# Altium schematic symbol library AnalogDevices.SchLib: 17 symbols
Pins are listed as number, name and electrical type; pins without a type are passive.

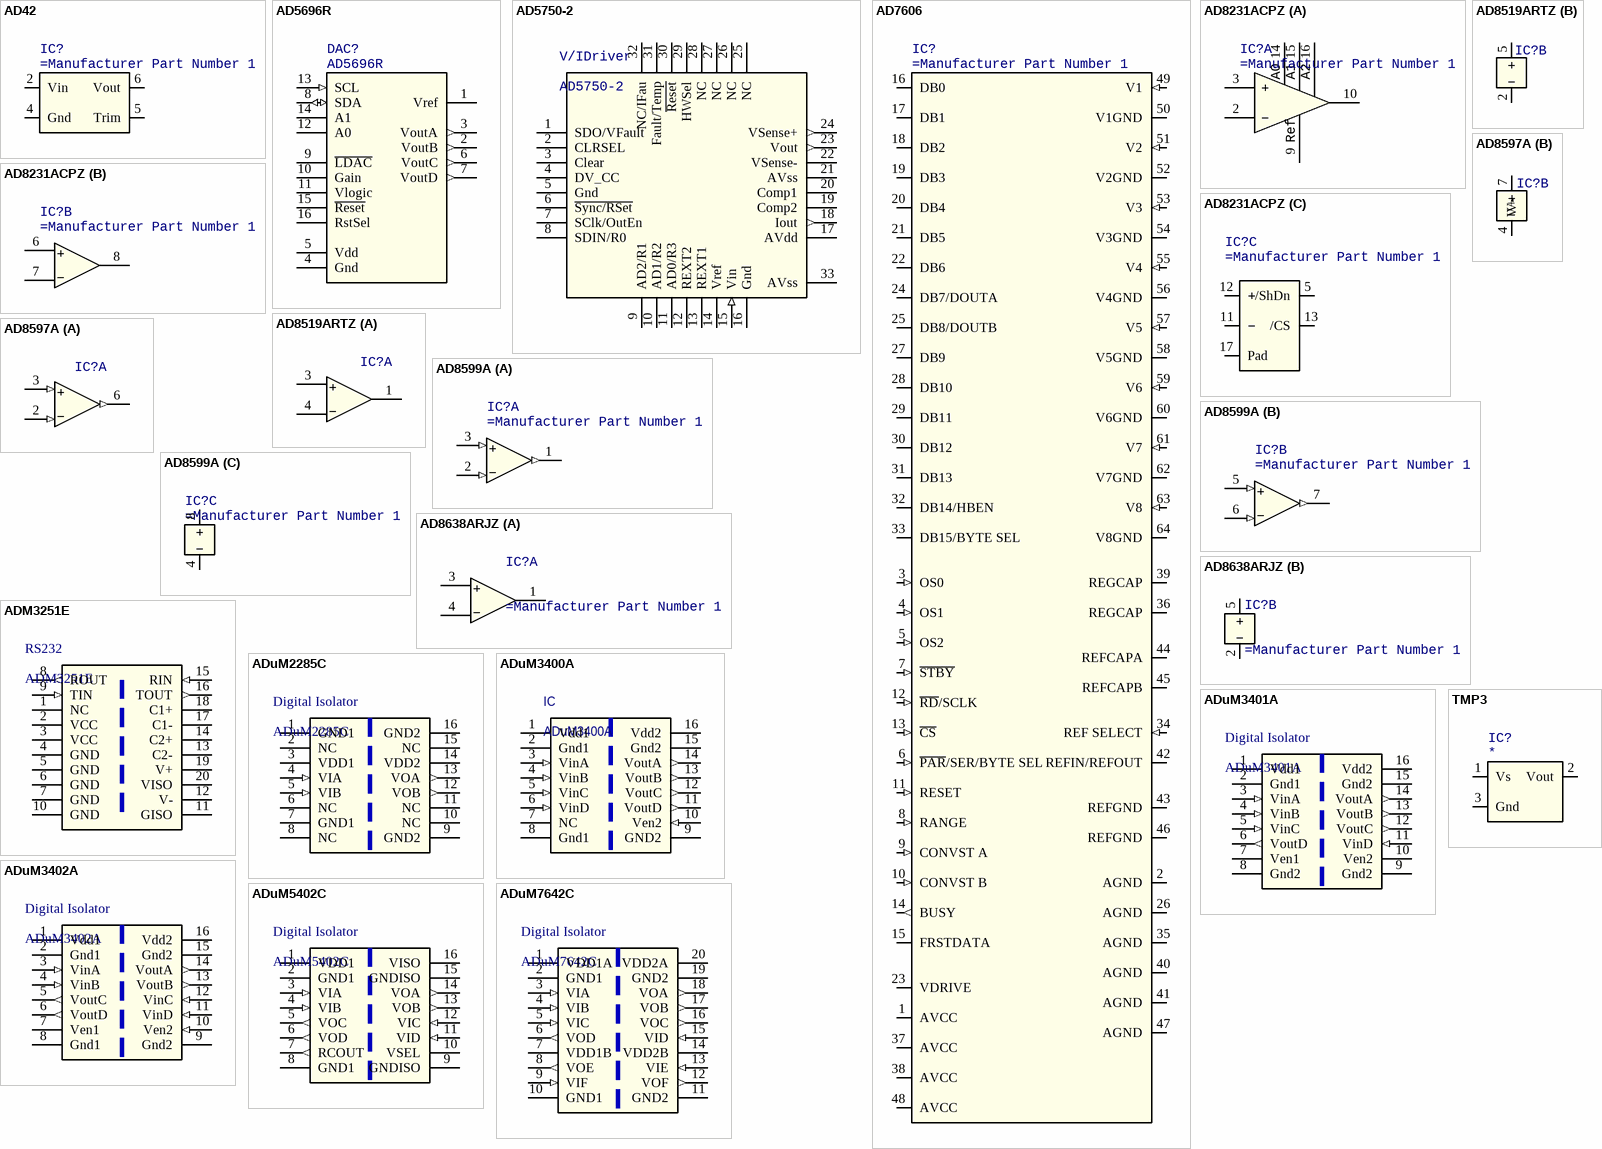
[diagram p0: symbols AD42 to TMP3]

## AD42
designator IC?
Low Noise Voltage Reference
footprint MSOP65P490X86-8N (TSOP, 8-Leads, Body 3.00x3.00mm, Pitch 0.65mm, IPC Medium Density)
footprint SOIC127P590X175-8N (SOIC, 8-Leads, Body 4.90x3.90mm, Pitch 1.27mm, IPC Medium Density)
pins: 1 NC hidden, 2 Vin (power), 3 NC hidden, 4 Gnd (power), 5 Trim, 6 Vout (power), 7 NC hidden, 8 NC hidden

## AD5696R
designator DAC?
DAC 4Ch with integrated Voltage Reference; Manufacturer 1: AnalogDevices; I2C Base Address: 00011; Manufacturer Part Number 1: AD5696R; Value: *
footprint TSOP65P500X640X120-16N (TSOP, 16-Leads, Body 5,00x4,40mm, Pitch 0,65mm, IPC Medium Density)
pins: 1 Vref (power), 2 VoutB (out), 3 VoutA (out), 4 Gnd (power), 5 Vdd (power), 6 VoutC (out), 7 VoutD (out), 8 SDA (io), 9 ~{LDAC}, 10 Gain, 11 Vlogic, 12 A0, 13 SCL (in), 14 A1, 15 ~{Reset}, 16 RstSel

## AD5750-2
designator V/IDriver
Voltage / Current Driver; Manufacturer 1: Analog Devices; Manufacturer Part Number 1: AD5750-2BCPZ; Supplier 1: Farnell; Supplier Part Number 1: 2112671; Value: AD5750-2
footprint QFN50P500X500X080-64N (FN, 32-Leads, Body 5,00x5,00mm, Pitch 0,50mm, Thermal Pad 3,10x3,10mm, IPC Medium Density)
pins: 1 SDO/VFault, 2 CLRSEL, 3 Clear, 4 DV_CC (power), 5 Gnd (power), 6 ~{Sync/RSet}, 7 SClk/OutEn, 8 SDIN/R0, 9 AD2/R1, 10 AD1/R2, 11 AD0/R3, 12 REXT2, 13 REXT1, 14 Vref (power), 15 Vin (in), 16 Gnd (power), 17 AVdd (power), 18 Iout (out), 19 Comp2, 20 Comp1, 21 AVss (power), 22 VSense-, 23 Vout (out), 24 VSense+ (out), 25 NC, 26 NC, 27 NC, 28 NC, 29 HWSel, 30 ~{Reset}, 31 Fault/Temp, 32 NC/IFau, 33 AVss

## AD7606
designator IC?
ADC /16bit / 8Ch
pins: 1 AVCC (power) "Analog Supply Voltage, 4.75 V to 5.25 V. This supply voltage is applied to the internal front-end amplifiers and to the ADC core. These supply pins should be decoupled to AGND.", 2 AGND (power) "Analog Ground. These pins are the ground reference points for all analog circuitry on the AD7606. All analog input signals and external reference signals should be referred to these pins. All six of these AGND pins should (See Datasheet)", 3 OS0 (in) "Oversampling Mode Pins. Logic inputs. These inputs are used to select the oversampling ratio. OS 2 is the MSB control bit, and OS 0 is the LSB control bit. See the Digital Filter section for more details about the (See Datasheet)", 4 OS1 (in) "Oversampling Mode Pins. Logic inputs. These inputs are used to select the oversampling ratio. OS 2 is the MSB control bit, and OS 0 is the LSB control bit. See the Digital Filter section for more details about the (See Datasheet)", 5 OS2 (in) "Oversampling Mode Pins. Logic inputs. These inputs are used to select the oversampling ratio. OS 2 is the MSB control bit, and OS 0 is the LSB control bit. See the Digital Filter section for more details about the (See Datasheet)", 6 ~{PAR}/SER/BYTE SEL (in) "Parallel/Serial/Byte Interface Selection Input. Logic input. If this pin is tied to a logic low, the parallel interface is selected. If this pin is tied to a logic high,the serial interface is selected. Parallel byte (See Datasheet)", 7 ~{STBY} (in) "Standby Mode Input. This pin is used to place the AD7606/AD7606-6/AD7606-4 into one of two power-down modes: standby mode or shutdown mode. The power-down mode entered depends on the state of the RANGE pin, as shown in Table (See Datasheet)", 8 RANGE (in) "Analog Input Range Selection. Logic input. The polarity on this pin deter-mines the input range of the analog input channels. If this pin is tied to a logic high, the analog input range is +/-10 V for all channels. If this (See Datasheet)", 9 CONVST A (in) "Conversion Start Input A. Logic inputs. These logic inputs are used to initiate conversions on the analog input channels. For simultaneous sampling of all input channels, CONVST A and CONVST B can be shorted together, and a (See Datasheet)", 10 CONVST B (in) "Conversion Start Input B. Logic inputs. These logic inputs are used to initiate conversions on the analog input channels. For simultaneous sampling of all input channels, CONVST A and CONVST B can be shorted together, and a (See Datasheet)", 11 RESET (in) "Reset Input. When set to logic high, the rising edge of RESET resets the AD7606/AD7606-6/AD7606-4. The part should receive a RESET pulse after power-up. The RESET high pulse should typically be 50 ns wide. If a RESET pulse (See Datasheet)", 12 ~{RD}/SCLK (in) "Parallel Data Read Control Input When the Parallel Interface Is Selected (R\D\)/ Serial Clock Input When the Serial Interface Is Selected (SCLK). When both C\S\ and R\D\ are logic low in parallel mode, the output bus is (See Datasheet)", 13 ~{CS} (in) "Chip Select. This active low logic input frames the data transfer. When both C\S\ and R\D\ are logic low in parallel mode, the DB[15:0] output bus is enabled and the conversion result is output on the parallel data bus lines.(See Datasheet)", 14 BUSY (out) "Busy Output. This pin transitions to a logic high after both CONVST A and CONVST B rising edges and indicates that the conversion process has started. The BUSY output remains high until the conversion process for all (See Datasheet)", 15 FRSTDATA (hiz) "Digital Output. The FRSTDATA output signal indicates when the first channel, V1, is being read back on the parallel, byte, or serial interface. When the C\S\ input is high, the FRSTDATA output pin is in three-state. The (See Datasheet)", 16 DB0 (io) "Parallel Output Data Bit, DB6 to DB0. When P\A\R\/SER/BYTE SEL = 0, this pin acts as three-state parallel digital input/output pin. When C\S\ and R\D\ are low, these pins are used to output DB6 to DB0 of the conversion (See Datasheet)", 17 DB1 (io) "Parallel Output Data Bit, DB6 to DB0. When P\A\R\/SER/BYTE SEL = 0, this pin acts as three-state parallel digital input/output pin. When C\S\ and R\D\ are low, these pins are used to output DB6 to DB0 of the conversion (See Datasheet)", 18 DB2 (io) "Parallel Output Data Bit, DB6 to DB0. When P\A\R\/SER/BYTE SEL = 0, this pin acts as three-state parallel digital input/output pin. When C\S\ and R\D\ are low, these pins are used to output DB6 to DB0 of the conversion (See Datasheet)", 19 DB3 (io) "Parallel Output Data Bit, DB6 to DB0. When P\A\R\/SER/BYTE SEL = 0, this pin acts as three-state parallel digital input/output pin. When C\S\ and R\D\ are low, these pins are used to output DB6 to DB0 of the conversion (See Datasheet)", 20 DB4 (io) "Parallel Output Data Bit, DB6 to DB0. When P\A\R\/SER/BYTE SEL = 0, this pin acts as three-state parallel digital input/output pin. When C\S\ and R\D\ are low, these pins are used to output DB6 to DB0 of the conversion (See Datasheet)", 21 DB5 (io) "Parallel Output Data Bit, DB6 to DB0. When P\A\R\/SER/BYTE SEL = 0, this pin acts as three-state parallel digital input/output pin. When C\S\ and R\D\ are low, these pins are used to output DB6 to DB0 of the conversion (See Datasheet)", 22 DB6 (io) "Parallel Output Data Bit, DB6 to DB0. When P\A\R\/SER/BYTE SEL = 0, this pin acts as three-state parallel digital input/output pin. When C\S\ and R\D\ are low, these pins are used to output DB6 to DB0 of the conversion (See Datasheet)", 23 VDRIVE (power) "Logic Power Supply Input. The voltage (2.3 V to 5.25 V) supplied at this pin determines the operating voltage of the interface. This pin is nominally at the same supply as the supply of the host interface (that is, DSP and (See Datasheet)", 24 DB7/DOUTA (io) "Parallel Output Data Bit 7 (DB7)/Serial Interface Data Output Pin (DoutA). When P\A\R\/SER/BYTE SEL = 0, this pin acts as a three-state parallel digital input/output pin. When C\S\ and R\D\ are low, this pin is used to (See Datasheet)", 25 DB8/DOUTB (io) "Parallel Output Data Bit 8 (DB8)/Serial Interface Data Output Pin (DoutB).  When P\A\R\/SER/BYTE SEL = 0, this pin acts as a three-state parallel digital input/output pin. When C\S\ and R\D\ are low, this pin is used to (See Datasheet)", 26 AGND (power) "Analog Ground. These pins are the ground reference points for all analog circuitry on the AD7606. All analog input signals and external reference signals should be referred to these pins. All six of these AGND pins should (See Datasheet)", 27 DB9 (io) "Parallel Output Data Bit, DB13 to DB9. When P\A\R\/SER/BYTE SEL = 0, this pin acts as three-state parallel digital input/output pin. When C\S\ and R\D\ are low, these pins are used to output DB13 to DB9 of the conversion (See Datasheet)", 28 DB10 (io) "Parallel Output Data Bit, DB13 to DB9. When P\A\R\/SER/BYTE SEL = 0, this pin acts as three-state parallel digital input/output pin. When C\S\ and R\D\ are low, these pins are used to output DB13 to DB9 of the conversion (See Datasheet)", 29 DB11 (io) "Parallel Output Data Bit, DB13 to DB9. When P\A\R\/SER/BYTE SEL = 0, this pin acts as three-state parallel digital input/output pin. When C\S\ and R\D\ are low, these pins are used to output DB13 to DB9 of the conversion (See Datasheet)", 30 DB12 (io) "Parallel Output Data Bit, DB13 to DB9. When P\A\R\/SER/BYTE SEL = 0, this pin acts as three-state parallel digital input/output pin. When C\S\ and R\D\ are low, these pins are used to output DB13 to DB9 of the conversion (See Datasheet)", 31 DB13 (io) "Parallel Output Data Bit, DB13 to DB9. When P\A\R\/SER/BYTE SEL = 0, this pin acts as three-state parallel digital input/output pin. When C\S\ and R\D\ are low, these pins are used to output DB13 to DB9 of the conversion (See Datasheet)", 32 DB14/HBEN (io) "Parallel Output Data Bit 14 (DB14)/High Byte Enable (HBEN). When P\A\R\/ SER/BYTE SEL = 0, this pin acts as a three-state parallel digital output pin. When C\S\ and R\D\ are low, this pin is used to output DB14 of the (See Datasheet)", 33 DB15/BYTE SEL (io) "Parallel Output Data Bit 15 (DB15)/Parallel Byte Mode Select (BYTE SEL).  When P\A\R\/SER/BYTE SEL = 0, this pin acts as a three-state parallel digital output pin. When C\S\ and R\D\ are low, this pin is used to output DB15 (See Datasheet)", 34 REF SELECT (in) "Internal/External Reference Selection Input. Logic input. If this pin is set to logic high, the internal reference is selected and enabled. If this pin is set to logic low, the internal reference is disabled and an external (See Datasheet)", 35 AGND (power) "Analog Ground. These pins are the ground reference points for all analog circuitry on the AD7606. All analog input signals and external reference signals should be referred to these pins. All six of these AGND pins should (See Datasheet)", 36 REGCAP "Decoupling Capacitor Pin for Voltage Output from Internal Regulator.  These output pins should be decoupled separately to AGND using a 1 uF capacitor. The voltage on these pins is in the range of 2.5 V to 2.7 V.", 37 AVCC (power) "Analog Supply Voltage, 4.75 V to 5.25 V. This supply voltage is applied to the internal front-end amplifiers and to the ADC core. These supply pins should be decoupled to AGND.", 38 AVCC (power) "Analog Supply Voltage, 4.75 V to 5.25 V. This supply voltage is applied to the internal front-end amplifiers and to the ADC core. These supply pins should be decoupled to AGND.", 39 REGCAP "Decoupling Capacitor Pin for Voltage Output from Internal Regulator.  These output pins should be decoupled separately to AGND using a 1 uF capacitor. The voltage on these pins is in the range of 2.5 V to 2.7 V.", 40 AGND (power) "Analog Ground. These pins are the ground reference points for all analog circuitry on the AD7606. All analog input signals and external reference signals should be referred to these pins. All six of these AGND pins should (See Datasheet)", 41 AGND (power) "Analog Ground. These pins are the ground reference points for all analog circuitry on the AD7606. All analog input signals and external reference signals should be referred to these pins. All six of these AGND pins should (See Datasheet)", 42 REFIN/REFOUT (io) "Reference Input (REFIN)/Reference Output (REFOUT). The on-chip reference of 2.5 V is available on this pin for external use if the REF SELECT pin is set to logic high. Alternatively, the internal reference can be disabled by (See Datasheet)", 43 REFGND (power) "Reference Ground Pins. These pins should be connected to AGND.", 44 REFCAPA "Reference Buffer Output Force/Sense Pins. These pins must be connected together and decoupled to AGND using a low ESR, 10 uF ceramic capacitor. The voltage on these pins is typically 4.5 V.", 45 REFCAPB "Reference Buffer Output Force/Sense Pins. These pins must be connected together and decoupled to AGND using a low ESR, 10 uF ceramic capacitor. The voltage on these pins is typically 4.5 V.", 46 REFGND (power) "Reference Ground Pins. These pins should be connected to AGND.", 47 AGND (power) "Analog Ground. These pins are the ground reference points for all analog circuitry on the AD7606. All analog input signals and external reference signals should be referred to these pins. All six of these AGND pins should (See Datasheet)", 48 AVCC (power) "Analog Supply Voltage, 4.75 V to 5.25 V. This supply voltage is applied to the internal front-end amplifiers and to the ADC core. These supply pins should be decoupled to AGND.", 49 V1 (in) "Analog Input. This pin is a single-ended analog input. The analog input range of this channel is determined by the RANGE pin.", 50 V1GND (power) "Analog Input Ground Pins. These pins correspond to Analog Input Pin V1 and Analog Input Pin V2. All analog input AGND pins should connect to the AGND plane of a system.", 51 V2 (in) "Analog Input. This pin is a single-ended analog input. The analog input range of this channel is determined by the RANGE pin.", 52 V2GND (power) "Analog Input Ground Pins. These pins correspond to Analog Input Pin V1 and Analog Input Pin V2. All analog input AGND pins should connect to the AGND plane of a system.", 53 V3 (in) "Analog Input 3. For the AD7606-4, this is an AGND pin.", 54 V3GND (power) "Analog Input Ground Pin. For the AD7606-4, this is an AGND pin.", 55 V4 (in) "Analog Input 4. For the AD7606-6 and the AD7606-4, this is an AGND pin.", 56 V4GND (power) "Analog Input Ground Pin. For the AD7606-6 and AD7606-4, this is an AGND pin.", 57 V5 (in) "Analog Inputs. These pins are single-ended analog inputs. The analog input range of these channels is determined by the RANGE pin.", 58 V5GND (power) "Analog Input Ground Pins. All analog input AGND pins should connect to the AGND plane of a system.", 59 V6 (in) "Analog Inputs. These pins are single-ended analog inputs.", 60 V6GND (power) "Analog Input Ground Pins. All analog input AGND pins should connect to the AGND plane of a system.", 61 V7 (in) "Analog Input Pins. For the AD7606-4, this is an AGND pin.", 62 V7GND (power) "Analog Input Ground Pins. For the AD7606-4, this is an AGND pin.", 63 V8 (in) "Analog Input Pin. For the AD7606-4 and AD7606-6, this is an AGND pin.", 64 V8GND (power) "Analog Input Ground Pin. For the AD7606-4 and AD7606-6, this is an AGND pin."

## AD8231ACPZ
designator IC?
Instrumentational Amplifier; Manufacturer Part Number 1: =Manufacturer Part Number 1; Manufacturer 1: =Manufacturer Part Number 1; Supplier 1: =Manufacturer Part Number 1; Supplier Part Number 1: =Manufacturer Part Number 1
footprint QFN65P400X400X80_HS-17N (QFN, 16-Leads, Body 4.00x4.00mm, Pitch 0.65mm, Thermal Pad 2.10x2.10mm, IPC Medium Density)
part A pins: 2 In-, 3 In+, 9 Ref, 10 OutA, 14 A0, 15 A1, 16 A2
part B pins: 6 InA+, 7 InB-, 8 OutB
part C pins: 5 /ShDn, 11 - (power), 12 + (power), 13 /CS, 17 Pad

## AD8519ARTZ
designator IC?
Op Amp, Single, SOT-23 Package, Low Power
part A pins: 1 Out, 3 In+, 4 In-
part B pins: 2 -, 5 +

## AD8597A
designator IC?
Op Amp, Low Noise, Low Distortion; CompionentLink1Description: =Manufacturer Part Number 1; ComponentLink1URL: =Manufacturer Part Number 1; PackageDescription: =Manufacturer Part Number 1; Manufacturer 1: =Manufacturer Part Number 1; Manufacturer Part Number 1: =Manufacturer Part Number 1; LayTec Nummer: =Manufacturer Part Number 1; PackageReferenz: =Manufacturer Part Number 1; PackageVersion: =Manufacturer Part Number 1; CompionentLink2Description: =Manufacturer Part Number 1; ComponentLink2URL: =Manufacturer Part Number 1; Value: =Manufacturer Part Number 1; Supplier 1: =Manufacturer Part Number 1; Supplier Part Number 1: =Manufacturer Part Number 1
footprint AD859X (SOIC, 8-Leads, Body 4,90x3,90mm, Pitch 1,27mm, IPC Medium Density)
part A pins: 2 - (in), 3 + (in), 6 Out (out)
part B pins: 1 NC hidden, 4 V- (power), 5 NC hidden, 7 V+ (power), 8 NC hidden

## AD8599A
designator IC?
Op Amp, Dual, Low Noise, Low Distortion; Manufacturer 1: =Manufacturer Part Number 1; Manufacturer Part Number 1: =Manufacturer Part Number 1; Supplier 1: =Manufacturer Part Number 1; Supplier Part Number 1: =Manufacturer Part Number 1; Value: =Manufacturer Part Number 1
footprint AD859X (SOIC, 8-Leads, Body 4,90x3,90mm, Pitch 1,27mm, IPC Medium Density)
part A pins: 1 OutA (out), 2 - (in), 3 + (in)
part B pins: 5 + (in), 6 - (in), 7 OutB (out)
part C pins: 4 V- (power), 8 V+ (power)

## AD8638ARJZ
designator IC?
Op Amp, Single, Auto Zero, SOT-23 Package
part A pins: 1 Out, 3 In+, 4 In-
part B pins: 2 -, 5 +

## ADM3251E
designator RS232
Isolated RS232 Transceiver; Supplier 1: Farnell; Supplier Part Number 1: 2067777
footprint ADM3151E_M (SOIC, 20-Leads, Body 12,80x7,50mm, Pitch 1,27mm, IPC Medium Density)
footprint ADM3151E_N (SOIC, 20-Leads, Body 12.80x7.50mm, Pitch 1.27mm, IPC Medium Density)
pins: 1 NC, 2 VCC (power), 3 VCC (power), 4 GND (power), 5 GND (power), 6 GND (power), 7 GND (power), 8 ROUT (out), 9 TIN (in), 10 GND (power), 11 GISO (power), 12 V- (power), 13 C2-, 14 C2+, 15 RIN (in), 16 TOUT (out), 17 C1-, 18 C1+, 19 V+ (power), 20 VISO (power)

## ADuM2285C
designator Digital Isolator
Digital Isolator, 2Ch, 100MBit/s; Manufacturer 1: AD; CompionentLink1Description: *; ComponentLink1URL: *; PackageDescription: *; Supplier 1: Farnell; Supplier Part Number 1: 2254986; Manufacturer Part Number 1: *; LayTec Nummer: *; PackageReferenz: *; PackageVersion: *; CompionentLink2Description: *; ComponentLink2URL: *; Value: *
footprint R-16B_N (16-Pin Small Outline Integrated Circuit 1.27 mm Pitch, IPC Medium Density)
pins: 1 GND1 (power), 2 NC, 3 VDD1 (power), 4 VIA (in), 5 VIB (in), 6 NC, 7 GND1 (power), 8 NC, 9 GND2 (power), 10 NC, 11 NC, 12 VOB (out), 13 VOA (out), 14 VDD2 (power), 15 NC, 16 GND2 (power)

## ADuM3400A
designator IC
Digital Isolator, 4Ch, 1MBit/s; Supplier 1: Farnell; Supplier Part Number 1: 1274135; Value: ADuM3400A
footprint ADuM-34XX (SOIC, 16-Leads, Body 10,30x7,50mm, Pitch 1,27mm, IPC Medium Density)
pins: 1 Vdd1 (power), 2 Gnd1 (power), 3 VinA (in), 4 VinB (in), 5 VinC (in), 6 VinD (in), 7 NC, 8 Gnd1 (power), 9 GND2 (power), 10 Ven2 (in), 11 VoutD (out), 12 VoutC (out), 13 VoutB (out), 14 VoutA (out), 15 Gnd2 (power), 16 Vdd2 (power)

## ADuM3401A
designator Digital Isolator
Digital Isolator, 4Ch, 1Mbit/s; CompionentLink1Description: *; ComponentLink1URL: *; PackageDescription: *; Manufacturer 1: *; Manufacturer Part Number 1: *; LayTec Nummer: *; PackageReferenz: *; PackageVersion: *; CompionentLink2Description: *; ComponentLink2URL: *; Value: ADuM3401A; Supplier 1: RS-Components; Supplier Part Number 1: 709-5317P
footprint ADuM-34XX (SOIC, 16-Leads, Body 10,30x7,50mm, Pitch 1,27mm, IPC Medium Density)
pins: 1 Vdd1 (power), 2 Gnd1 (power), 3 VinA (in), 4 VinB (in), 5 VinC (in), 6 VoutD (out), 7 Ven1, 8 Gnd2 (power), 9 Gnd2 (power), 10 Ven2, 11 VinD (in), 12 VoutC (out), 13 VoutB (out), 14 VoutA (out), 15 Gnd2 (power), 16 Vdd2 (power)

## ADuM3402A
designator Digital Isolator
Digital Isolator, 4Ch, 1MBit/s; Manufacturer 1: AD; CompionentLink1Description: *; ComponentLink1URL: *; PackageDescription: *; Manufacturer Part Number 1: *; LayTec Nummer: *; PackageReferenz: *; PackageVersion: *; CompionentLink2Description: *; ComponentLink2URL: *; Supplier 1: Farnell; Supplier Part Number 1: 1274128; Value: ADuM3402A
footprint ADuM-34XX (SOIC, 16-Leads, Body 10,30x7,50mm, Pitch 1,27mm, IPC Medium Density)
pins: 1 Vdd1 (power), 2 Gnd1 (power), 3 VinA (in), 4 VinB (in), 5 VoutC (out), 6 VoutD (out), 7 Ven1 (power), 8 Gnd1 (power), 9 Gnd2 (power), 10 Ven2 (in), 11 VinD (in), 12 VinC (in), 13 VoutB (out), 14 VoutA (out), 15 Gnd2 (power), 16 Vdd2 (power)

## ADuM5402C
designator Digital Isolator
Digital Isolator, 4Ch, 25 MBit/s, with Isolated DC/DC Converter; Manufacturer 1: AD; CompionentLink1Description: *; ComponentLink1URL: http://www.analog.com/en/interface-isolation/digital-isolators/adum5402/products/product.html; PackageDescription: *; Supplier 1: Farnell; Supplier Part Number 1: 2067769; Manufacturer Part Number 1: *; LayTec Nummer: *; PackageReferenz: *; PackageVersion: *; CompionentLink2Description: *; ComponentLink2URL: *; Value: *
footprint R-16B_N (16-Pin Small Outline Integrated Circuit 1.27 mm Pitch, IPC Medium Density)
pins: 1 VDD1 (power), 2 GND1 (power), 3 VIA (in), 4 VIB (in), 5 VOC (out), 6 VOD (out), 7 RCOUT (out), 8 GND1 (power), 9 GNDISO (power), 10 VSEL, 11 VID (in), 12 VIC (in), 13 VOB (out), 14 VOA (out), 15 GNDISO (power), 16 VISO (power)

## ADuM7642C
designator Digital Isolator
Digital Isolator, 6Ch, 25MBit/s; CompionentLink1Description: *; ComponentLink1URL: *; PackageDescription: *; Supplier 1: Farnell; Supplier Part Number 1: 2254977; Manufacturer 1: *; Manufacturer Part Number 1: *; LayTec Nummer: *; PackageReferenz: *; PackageVersion: *; CompionentLink2Description: *; ComponentLink2URL: *; Value: ADuM7642C
pins: 1 VDD1A (power), 2 GND1 (power), 3 VIA (in), 4 VIB (in), 5 VIC (in), 6 VOD (out), 7 VDD1B (power), 8 VOE (out), 9 VIF (in), 10 GND1 (power), 11 GND2 (power), 12 VOF (out), 13 VIE (in), 14 VDD2B (power), 15 VID (in), 16 VOC (out), 17 VOB (out), 18 VOA (out), 19 GND2 (power), 20 VDD2A (power)

## TMP3
designator IC?
Value: *
footprint TO92-50 (THT Package, 3 Pins, Pitch 50mil)
pins: 1 Vs (power), 2 Vout, 3 Gnd (power)